# EAGLE library part POWER_POWER_RELAIS2UM (library WurzPower)
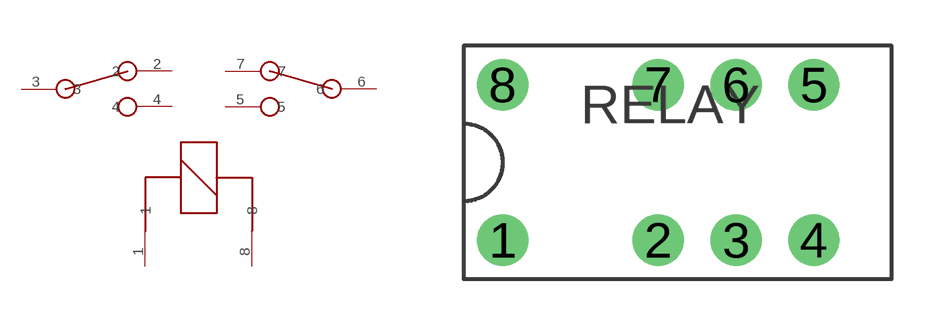
[diagram p4: symbol with the pads of POWER_POWER_RELAIS2UM; footprint POWER_POWER_RELAIS2UM]

Designator prefix -

## POWER_POWER_RELAIS2UM  [POWER_POWER_RELAIS2UM]
1  1
2  2
3  3
4  4
5  5
6  6
7  7
8  8

## Footprint POWER_POWER_RELAIS2UM (pad centres in mm)
drill 0.381 pad 1.676: 1 0,0; 2 5.08,0; 3 7.62,0; 4 10.16,0; 5 10.16,5.08; 6 7.62,5.08; 7 5.08,5.08; 8 0,5.08